# Altium schematic symbol library TRF7970ARHBR.SchLib: 1 symbol
Pins are listed as number, name and electrical type; pins without a type are passive.

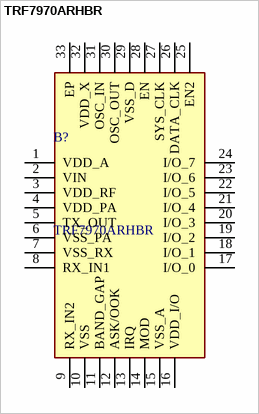
[diagram p0: symbol TRF7970ARHBR]

## TRF7970ARHBR
designator B?
Multi-Protocol Fully Integrated 13.56-MHz NFC / RFID Transceiver IC; Manufacturer_Name: Texas Instruments; Geometry.Height: 1mm; Mouser Part Number: 595-TRF7970ARHBR; Mouser Price/Stock: https://www.mouser.co.uk/ProductDetail/Texas-Instruments/TRF7970ARHBR?qs=4dGAZp5OGt8Af9zmAaD4OQ%3D%3D; Manufacturer_Part_Number: TRF7970ARHBR; Datasheet Link: https://www.ti.com/lit/ds/symlink/trf7970a.pdf?ts=1606905143859&ref_url=https%253A%252F%252Fwww.ti.com%252Fstore%252Fti%252Fen%252Fp%252Fproduct%252F%253Fp%253DTRF7970ARHBR%2526keyMatch%253DTRF7970ARHBR%2526tisearch%253DSearch-EN-everything%2526usecase%25
footprint QFN50P500X500X100-33N-D
pins: 1 VDD_A, 2 VIN, 3 VDD_RF, 4 VDD_PA, 5 TX_OUT, 6 VSS_PA, 7 VSS_RX, 8 RX_IN1, 9 RX_IN2, 10 VSS, 11 BAND_GAP, 12 ASK/OOK, 13 IRQ, 14 MOD, 15 VSS_A, 16 VDD_I/O, 17 I/O_0, 18 I/O_1, 19 I/O_2, 20 I/O_3, 21 I/O_4, 22 I/O_5, 23 I/O_6, 24 I/O_7, 25 EN2, 26 DATA_CLK, 27 SYS_CLK, 28 EN, 29 VSS_D, 30 OSC_OUT, 31 OSC_IN, 32 VDD_X, 33 EP